# Altium schematic symbol library nRF52810.SchLib: 1 symbol
Pins are listed as number, name and electrical type; pins without a type are passive.

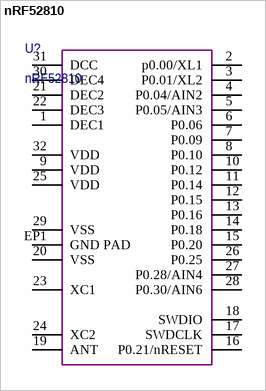
[diagram p0: symbol nRF52810]

## nRF52810
designator U?
RF System on a Chip - SoC BLE 5 Ready OTA QFN 32 pin 5x6
pins: 1 DEC1, 2 p0.00/XL1, 3 P0.01/XL2, 4 P0.04/AIN2, 5 P0.05/AIN3, 6 P0.06, 7 P0.09, 8 P0.10, 9 VDD, 10 P0.12, 11 P0.14, 12 P0.15, 13 P0.16, 14 P0.18, 15 P0.20, 16 P0.21/nRESET, 17 SWDCLK, 18 SWDIO, 19 ANT, 20 VSS, 21 DEC2, 22 DEC3, 23 XC1, 24 XC2, 25 VDD, 26 P0.25, 27 P0.28/AIN4, 28 P0.30/AIN6, 29 VSS, 30 DEC4, 31 DCC, 32 VDD, EP1 GND PAD